# Altium footprint library RN60D1682FB14.PcbLib: 1 footprints
Each footprint in its own frame and in the unit in brackets; x right, y up, seen from the top. Pads: shape width x height; smd on the part's side, far side on the other; paste and mask are expansions set on the pad; w line width, h text height; cw(c..) or ccw(c..) is an arc to the next point about the centre after c.
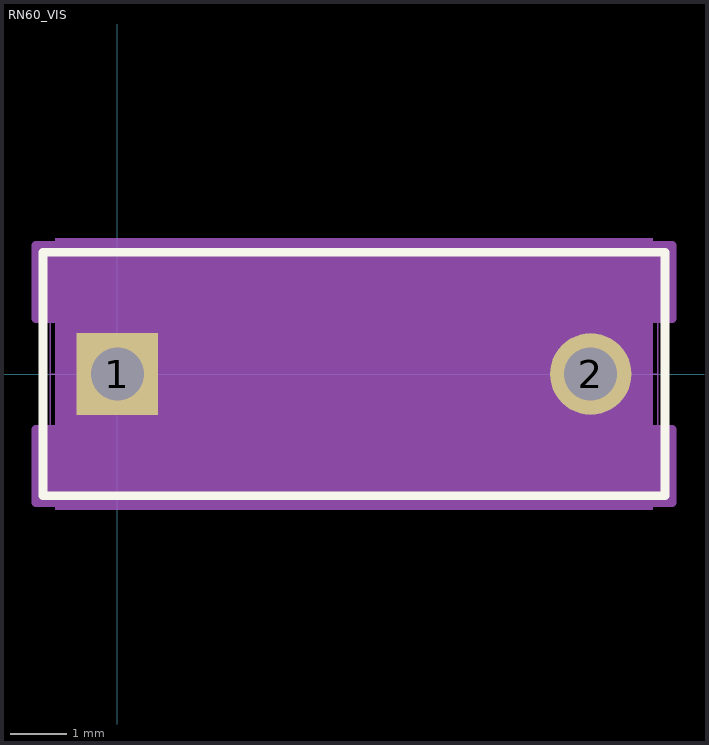
[diagram p0: the footprint, top view; thin cyan lines are the x and y axes]

## RN60_VIS [mil]
pads (2):
  rect 57x57 hole 37 mask+0: 1(0,0)
  round 57 hole 37 mask+0: 2(331,0)
Top Overlay:
  lines w6: -52,-85 383,-85 383,85 -52,85 -52,-85
Mechanical 5:
  region: 374.5,-95 -43.5,-95 -43.5,95 374.5,95
Mechanical 13:
  lines w1: -47,0 0,0 ; 331,0 378,0 ; -47,-80 378,-80 378,80 -47,80 -47,-80
Mechanical 15:
  region: -57,-38.5 -38.5,-38.5 -38.5,38.5 -57,38.5 -57,90 388,90 388,38.5 369.5,38.5 369.5,-38.5 388,-38.5 388,-90 -57,-90
  lines w6: -57,-90 -57,-38.5 -38.5,-38.5 -38.5,38.5 -57,38.5 -57,90 388,90 388,38.5 369.5,38.5 369.5,-38.5 388,-38.5 388,-90 -57,-90
3D body "RN60_VIS.step": height 160, standoff -110, extent -74.02,-80 405,80